# Altium footprint library SimpleFOC.PcbLib: 17 footprints (part 2 of 2)
Each footprint in its own frame and in the unit in brackets; x right, y up, seen from the top. Pads: shape width x height; smd on the part's side, far side on the other; paste and mask are expansions set on the pad; w line width, h text height; cw(c..) or ccw(c..) is an arc to the next point about the centre after c.
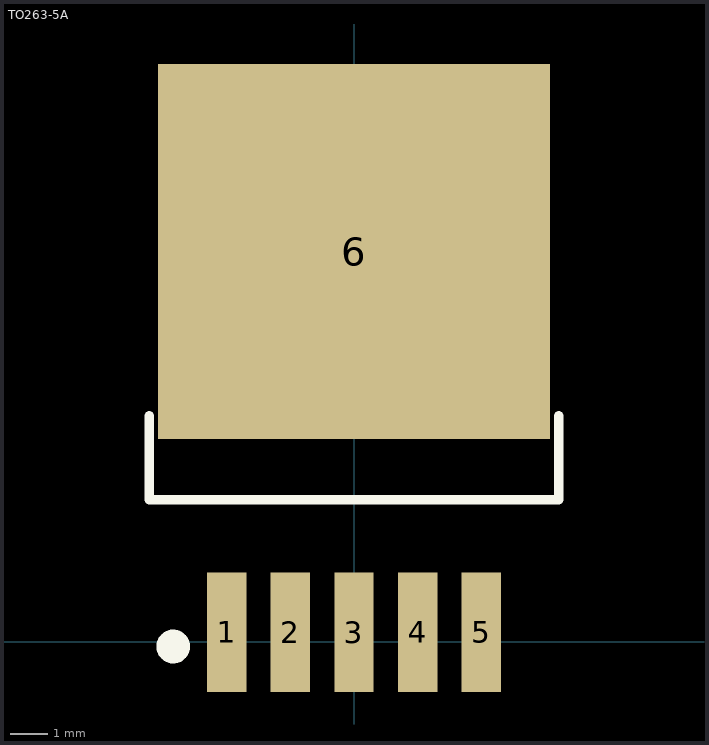
[diagram p1: the footprint, top view; thin cyan lines are the x and y axes]

## TO263-5A [mm] "263，5脚晶体管"
height 1.5
pads (6):
  rect 1.05x3.2 smd: 1(-3.4,0.254) 2(-1.7,0.254) 3(0,0.254) 4(1.7,0.254) 5(3.4,0.254)
  rect 10.45x10 smd: 6(0,10.414)
Top Overlay:
  circle w0.5: c-4.826,-0.127 r0.2
  lines w0.254: -5.461,6.037 -5.461,3.787 5.461,3.787 5.461,6.037
3D body "TO263-5A.STEP": height 4.5, standoff 0, extent -5,0.244 5,13.571